# Altium footprint library AMP Footprints.PcbLib: 903 footprints (part 51 of 58)
Each footprint in its own frame and in the unit in brackets; x right, y up, seen from the top. Pads: shape width x height; smd on the part's side, far side on the other; paste and mask are expansions set on the pad; w line width, h text height; cw(c..) or ccw(c..) is an arc to the next point about the centre after c.
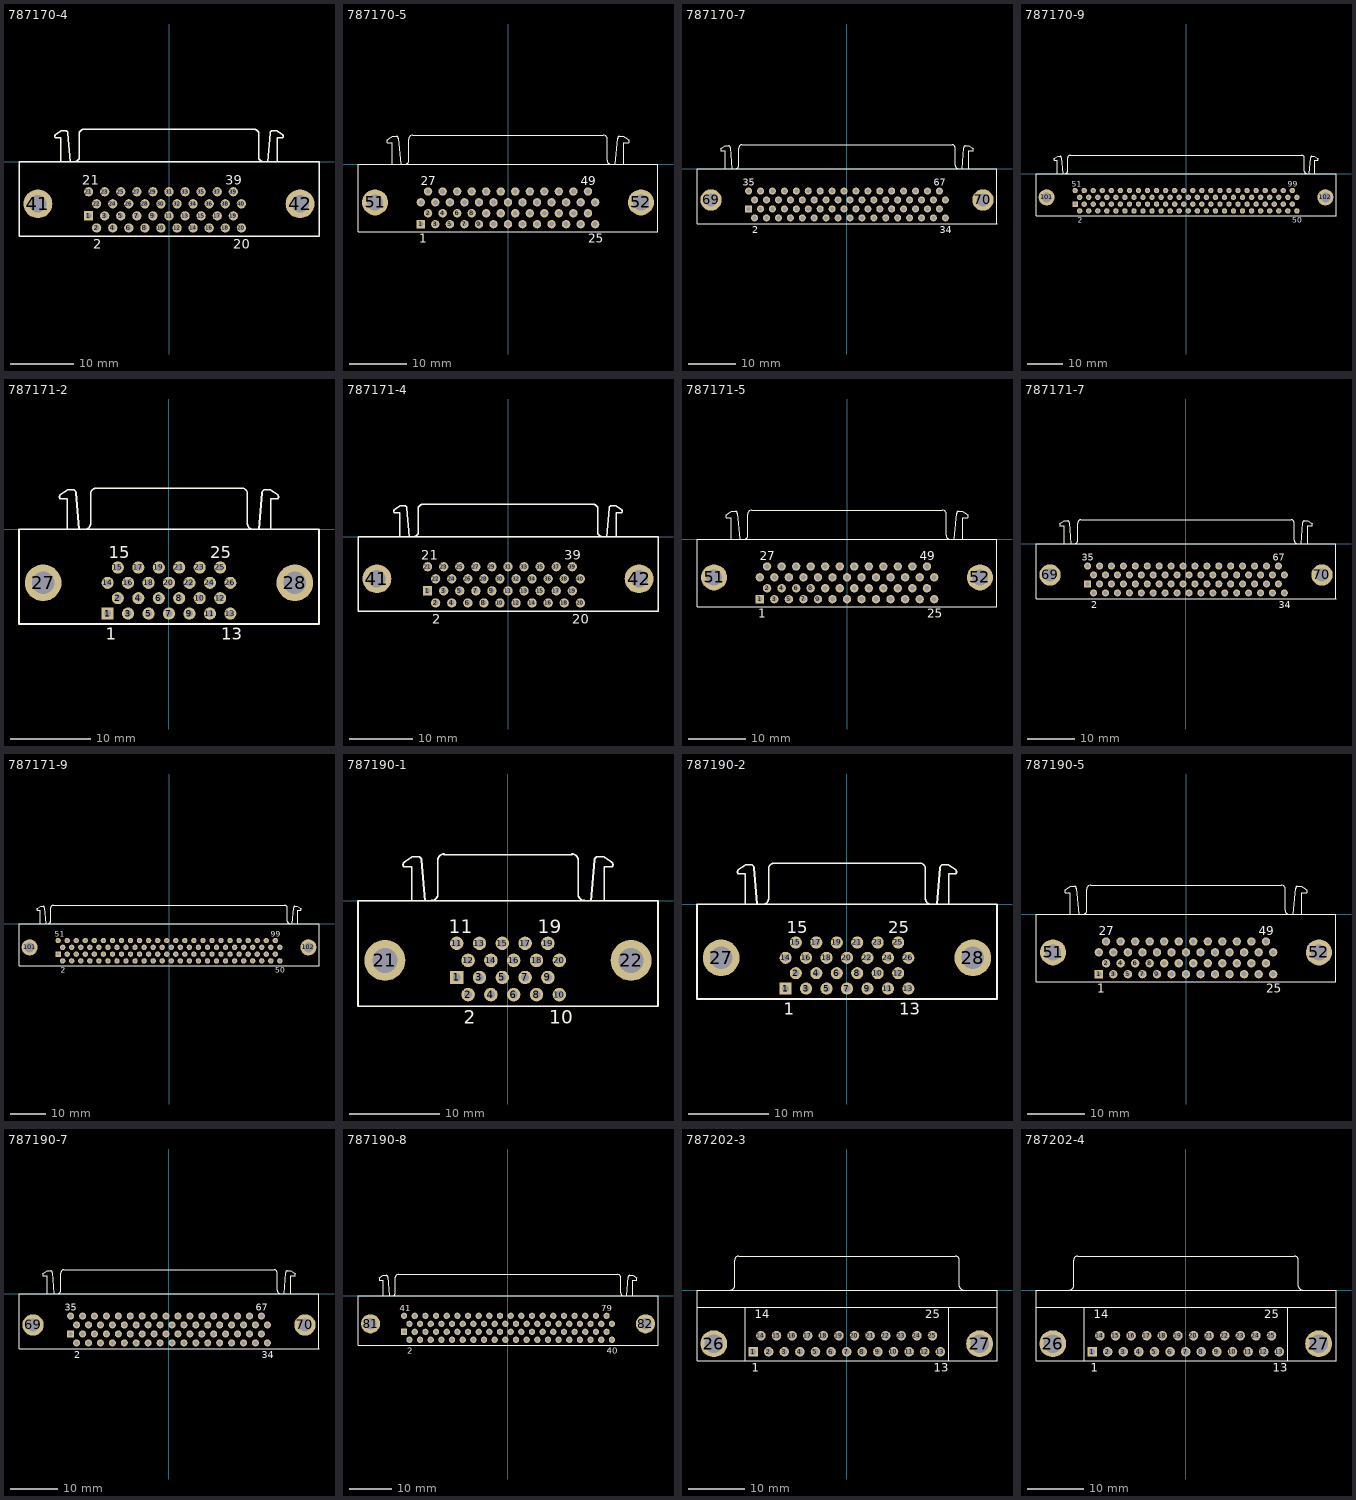
[diagram p50: the footprints below, top view; thin cyan lines are the x and y axes]

## 787170-4 [mm] "Connector; D Subminiature 050 Series; 40 Position; Right Angle"
height 10.44
pads (42):
  rect 1.46x1.46 hole 0.86: 1(-12.7,-8.555)
  round 1.46 hole 0.86: 2(-11.43,-10.46) 3(-10.16,-8.555) 4(-8.89,-10.46) 5(-7.62,-8.555) 6(-6.35,-10.46) 7(-5.08,-8.555) 8(-3.81,-10.46) 9(-2.54,-8.555) 10(-1.27,-10.46) 11(0,-8.555) 12(1.27,-10.46) 13(2.54,-8.555) 14(3.81,-10.46) 15(5.08,-8.555) 16(6.35,-10.46) 17(7.62,-8.555) 18(8.89,-10.46) 19(10.16,-8.555) 20(11.43,-10.46) 21(-12.7,-4.745) 22(-11.43,-6.65) 23(-10.16,-4.745) 24(-8.89,-6.65) 25(-7.62,-4.745) 26(-6.35,-6.65) 27(-5.08,-4.745) 28(-3.81,-6.65) 29(-2.54,-4.745) 30(-1.27,-6.65) 31(0,-4.745) 32(1.27,-6.65) 33(2.54,-4.745) 34(3.81,-6.65) 35(5.08,-4.745) 36(6.35,-6.65) 37(7.62,-4.745) 38(8.89,-6.65) 39(10.16,-4.745) 40(11.43,-6.65)
  round 4.55 hole 2.77: 41(-20.7,-6.65) 42(20.7,-6.65)
Top Overlay:
  lines w0.2: -23.695,0 23.695,0 23.695,-11.76 -23.695,-11.76 -23.695,0.02 ; -17.95,4.27 -17.01,4.898 -16.288,4.898 cw(c-16.39,4.5) -15.98,4.5 ; -17.936,4.255 ccw(c-17.71,4.01) -17.96,3.79 -17.08,3.79 -17.08,0 ; -15.98,4.52 -15.61,0 ; -14.87,0.005 ccw(c-14.87,0.7) -14.175,0.7 -14.175,4.41 cw(c-13.48,4.41) -13.48,5.105 ; -13.48,5.11 13.48,5.11 ; 13.48,5.105 cw(c13.48,4.41) 14.175,4.41 14.175,0.7 ccw(c14.87,0.7) 14.87,0.005 ; 15.61,0 15.98,4.52 ; 15.98,4.5 cw(c16.39,4.5) 16.288,4.898 17.01,4.898 17.95,4.27 ; 17.08,0 17.08,3.79 17.96,3.79 ccw(c17.71,4.01) 17.936,4.255
  text "20" at 10.18,-13.735 h1.5
  text "39" at 8.91,-3.64 h1.5
  text "2" at -11.93,-13.735 h1.5
  text "21" at -13.7,-3.64 h1.5

## 787170-5 [mm] "Connector; D Subminiature 050 Series; 50 Position; Right Angle"
height 10.44
pads (52):
  rect 1.46x1.46 hole 0.86: 1(-15.24,-10.46)
  round 1.46 hole 0.86: 2(-13.97,-8.555) 3(-12.7,-10.46) 4(-11.43,-8.555) 5(-10.16,-10.46) 6(-8.89,-8.555) 7(-7.62,-10.46) 8(-6.35,-8.555) 9(-5.08,-10.46) 10(-3.81,-8.555) 11(-2.54,-10.46) 12(-1.27,-8.555) 13(0,-10.46) 14(1.27,-8.555) 15(2.54,-10.46) 16(3.81,-8.555) 17(5.08,-10.46) 18(6.35,-8.555) 19(7.62,-10.46) 20(8.89,-8.555) 21(10.16,-10.46) 22(11.43,-8.555) 23(12.7,-10.46) 24(13.97,-8.555) 25(15.24,-10.46) 26(-15.24,-6.65) 27(-13.97,-4.745) 28(-12.7,-6.65) 29(-11.43,-4.745) 30(-10.16,-6.65) 31(-8.89,-4.745) 32(-7.62,-6.65) 33(-6.35,-4.745) 34(-5.08,-6.65) 35(-3.81,-4.745) 36(-2.54,-6.65) 37(-1.27,-4.745) 38(0,-6.65) 39(1.27,-4.745) 40(2.54,-6.65) 41(3.81,-4.745) 42(5.08,-6.65) 43(6.35,-4.745) 44(7.62,-6.65) 45(8.89,-4.745) 46(10.16,-6.65) 47(11.43,-4.745) 48(12.7,-6.65) 49(13.97,-4.745) 50(15.24,-6.65)
  round 4.55 hole 2.77: 51(-23.24,-6.65) 52(23.24,-6.65)
Top Overlay:
  lines w0.2: -21.125,4.27 -20.185,4.898 -19.463,4.898 cw(c-19.565,4.5) -19.155,4.5 ; -21.111,4.255 ccw(c-20.885,4.01) -21.135,3.79 -20.255,3.79 -20.255,0 ; -19.155,4.52 -18.785,0 ; -18.045,0.015 ccw(c-18.045,0.71) -17.35,0.71 -17.35,4.41 ; -17.345,4.415 cw(c-16.65,4.415) -16.65,5.11 16.65,5.11 cw(c16.65,4.415) 17.345,4.415 ; 17.35,4.41 17.35,0.71 ccw(c18.045,0.71) 18.045,0.015 ; 18.785,0 19.155,4.52 ; 19.155,4.5 cw(c19.565,4.5) 19.463,4.898 20.185,4.898 21.125,4.27 ; 20.255,0 20.255,3.79 21.135,3.79 ccw(c20.885,4.01) 21.111,4.255 ; -26.225,-11.76 -26.225,0 26.225,0 26.225,-11.76 -26.225,-11.76
  text "1" at -15.49,-13.735 h1.5
  text "25" at 13.99,-13.735 h1.5
  text "27" at -15.22,-3.64 h1.5
  text "49" at 12.72,-3.64 h1.5

## 787170-7 [mm] "Connector; D Subminiature 050 Series; 68 Position; Right Angle"
height 10.44
pads (70):
  rect 1.5x1.5 hole 0.86: 1(-20.955,-8.555)
  round 1.5 hole 0.86: 2(-19.685,-10.46) 3(-18.415,-8.555) 4(-17.145,-10.46) 5(-15.875,-8.555) 6(-14.605,-10.46) 7(-13.335,-8.555) 8(-12.065,-10.46) 9(-10.795,-8.555) 10(-9.525,-10.46) 11(-8.255,-8.555) 12(-6.985,-10.46) 13(-5.715,-8.555) 14(-4.445,-10.46) 15(-3.175,-8.555) 16(-1.905,-10.46) 17(-0.635,-8.555) 18(0.635,-10.46) 19(1.905,-8.555) 20(3.175,-10.46) 21(4.445,-8.555) 22(5.715,-10.46) 23(6.985,-8.555) 24(8.255,-10.46) 25(9.525,-8.555) 26(10.795,-10.46) 27(12.065,-8.555) 28(13.335,-10.46) 29(14.605,-8.555) 30(15.875,-10.46) 31(17.145,-8.555) 32(18.415,-10.46) 33(19.685,-8.555) 34(20.955,-10.46) 35(-20.955,-4.745) 36(-19.685,-6.65) 37(-18.415,-4.745) 38(-17.145,-6.65) 39(-15.875,-4.745) 40(-14.605,-6.65) 41(-13.335,-4.745) 42(-12.065,-6.65) 43(-10.795,-4.745) 44(-9.525,-6.65) 45(-8.255,-4.745) 46(-6.985,-6.65) 47(-5.715,-4.745) 48(-4.445,-6.65) 49(-3.175,-4.745) 50(-1.905,-6.65) 51(-0.635,-4.745) 52(0.635,-6.65) 53(1.905,-4.745) 54(3.175,-6.65) 55(4.445,-4.745) 56(5.715,-6.65) 57(6.985,-4.745) 58(8.255,-6.65) 59(9.525,-4.745) 60(10.795,-6.65) 61(12.065,-4.745) 62(13.335,-6.65) 63(14.605,-4.745) 64(15.875,-6.65) 65(17.145,-4.745) 66(18.415,-6.65) 67(19.685,-4.745) 68(20.955,-6.65)
  round 4.55 hole 2.77: 69(-28.955,-6.65) 70(28.955,-6.65)
Top Overlay:
  lines w0.2: -26.84,4.27 -25.9,4.898 -25.178,4.898 cw(c-25.28,4.5) -24.87,4.5 ; -26.826,4.255 ccw(c-26.6,4.01) -26.85,3.79 -25.97,3.79 -25.97,0 ; -24.87,4.52 -24.5,0 ; -23.76,0.005 ccw(c-23.76,0.7) -23.065,0.7 -23.065,4.4 cw(c-22.37,4.4) -22.37,5.095 ; -22.37,5.11 22.37,5.11 ; 22.37,5.095 cw(c22.37,4.4) 23.065,4.4 23.065,0.7 ccw(c23.76,0.7) 23.76,0.005 ; 24.5,0 24.87,4.52 ; 24.87,4.5 cw(c25.28,4.5) 25.178,4.898 25.9,4.898 26.84,4.27 ; 25.97,0 25.97,3.79 26.85,3.79 ccw(c26.6,4.01) 26.826,4.255 ; -31.95,-11.76 31.95,-11.76 31.95,0 -31.95,0 -31.95,-11.76
  text "2" at -20.185,-13.735 h1.5
  text "34" at 19.705,-13.735 h1.5
  text "67" at 18.435,-3.62 h1.5
  text "35" at -22.205,-3.62 h1.5

## 787170-9 [mm] "Connector; D Subminiature 050 Series; 100 Position; Right Angle"
height 10.44
pads (102):
  rect 1.5x1.5 hole 0.86: 1(-31.115,-8.555)
  round 1.5 hole 0.86: 2(-29.845,-10.46) 3(-28.575,-8.555) 4(-27.305,-10.46) 5(-26.035,-8.555) 6(-24.765,-10.46) 7(-23.495,-8.555) 8(-22.225,-10.46) 9(-20.955,-8.555) 10(-19.685,-10.46) 11(-18.415,-8.555) 12(-17.145,-10.46) 13(-15.875,-8.555) 14(-14.605,-10.46) 15(-13.335,-8.555) 16(-12.065,-10.46) 17(-10.795,-8.555) 18(-9.525,-10.46) 19(-8.255,-8.555) 20(-6.985,-10.46) 21(-5.715,-8.555) 22(-4.445,-10.46) 23(-3.175,-8.555) 24(-1.905,-10.46) 25(-0.635,-8.555) 26(0.635,-10.46) 27(1.905,-8.555) 28(3.175,-10.46) 29(4.445,-8.555) 30(5.715,-10.46) 31(6.985,-8.555) 32(8.255,-10.46) 33(9.525,-8.555) 34(10.795,-10.46) 35(12.065,-8.555) 36(13.335,-10.46) 37(14.605,-8.555) 38(15.875,-10.46) 39(17.145,-8.555) 40(18.415,-10.46) 41(19.685,-8.555) 42(20.955,-10.46) 43(22.225,-8.555) 44(23.495,-10.46) 45(24.765,-8.555) 46(26.035,-10.46) 47(27.305,-8.555) 48(28.575,-10.46) 49(29.845,-8.555) 50(31.115,-10.46) 51(-31.115,-4.745) 52(-29.845,-6.65) 53(-28.575,-4.745) 54(-27.305,-6.65) 55(-26.035,-4.745) 56(-24.765,-6.65) 57(-23.495,-4.745) 58(-22.225,-6.65) 59(-20.955,-4.745) 60(-19.685,-6.65) 61(-18.415,-4.745) 62(-17.145,-6.65) 63(-15.875,-4.745) 64(-14.605,-6.65) 65(-13.335,-4.745) 66(-12.065,-6.65) 67(-10.795,-4.745) 68(-9.525,-6.65) 69(-8.255,-4.745) 70(-6.985,-6.65) 71(-5.715,-4.745) 72(-4.445,-6.65) 73(-3.175,-4.745) 74(-1.905,-6.65) 75(-0.635,-4.745) 76(0.635,-6.65) 77(1.905,-4.745) 78(3.175,-6.65) 79(4.445,-4.745) 80(5.715,-6.65) 81(6.985,-4.745) 82(8.255,-6.65) 83(9.525,-4.745) 84(10.795,-6.65) 85(12.065,-4.745) 86(13.335,-6.65) 87(14.605,-4.745) 88(15.875,-6.65) 89(17.145,-4.745) 90(18.415,-6.65) 91(19.685,-4.745) 92(20.955,-6.65) 93(22.225,-4.745) 94(23.495,-6.65) 95(24.765,-4.745) 96(26.035,-6.65) 97(27.305,-4.745) 98(28.575,-6.65) 99(29.845,-4.745) 100(31.115,-6.65)
  round 4.55 hole 2.77: 101(-39.115,-6.65) 102(39.115,-6.65)
Top Overlay:
  lines w0.2: -37,4.27 -36.06,4.898 -35.338,4.898 cw(c-35.44,4.5) -35.03,4.5 ; -36.986,4.255 ccw(c-36.76,4.01) -37.01,3.79 -36.13,3.79 -36.13,0 ; -35.03,4.52 -34.66,0 ; -33.92,0.005 ccw(c-33.92,0.7) -33.225,0.7 -33.225,4.415 cw(c-32.53,4.415) -32.53,5.11 32.53,5.11 cw(c32.53,4.415) 33.225,4.415 33.225,0.7 ccw(c33.92,0.7) 33.92,0.005 ; 34.66,0 35.03,4.52 ; 35.03,4.5 cw(c35.44,4.5) 35.338,4.898 36.06,4.898 37,4.27 ; 36.13,0 36.13,3.79 37.01,3.79 ccw(c36.76,4.01) 36.986,4.255 ; -42.1,-11.76 -42.1,0 42.1,0 42.1,-11.76 -42.1,-11.76
  text "2" at -30.345,-13.735 h1.5
  text "50" at 29.865,-13.735 h1.5
  text "51" at -32.115,-3.62 h1.5
  text "99" at 28.595,-3.62 h1.5

## 787171-2 [mm] "Connector; D Subminiature 050 Series; 26 Position; Right Angle"
height 10.44
pads (28):
  rect 1.5x1.5 hole 0.86: 1(-7.62,-10.46)
  round 1.5 hole 0.86: 2(-6.35,-8.555) 3(-5.08,-10.46) 4(-3.81,-8.555) 5(-2.54,-10.46) 6(-1.27,-8.555) 7(0,-10.46) 8(1.27,-8.555) 9(2.54,-10.46) 10(3.81,-8.555) 11(5.08,-10.46) 12(6.35,-8.555) 13(7.62,-10.46) 14(-7.62,-6.65) 15(-6.35,-4.745) 16(-5.08,-6.65) 17(-3.81,-4.745) 18(-2.54,-6.65) 19(-1.27,-4.745) 20(0,-6.65) 21(1.27,-4.745) 22(2.54,-6.65) 23(3.81,-4.745) 24(5.08,-6.65) 25(6.35,-4.745) 26(7.62,-6.65)
  round 4.55 hole 2.77: 27(-15.62,-6.65) 28(15.62,-6.65)
Top Overlay:
  lines w0.2: -13.505,4.27 -12.565,4.898 -11.843,4.898 cw(c-11.945,4.5) -11.535,4.5 ; -13.491,4.255 ccw(c-13.265,4.01) -13.515,3.79 -12.635,3.79 -12.635,0 ; -11.535,4.52 -11.165,0 ; -10.425,0.005 ccw(c-10.425,0.7) -9.73,0.7 -9.73,4.4 cw(c-9.035,4.4) -9.035,5.095 ; -9.035,5.11 9.035,5.11 ; 9.035,5.105 cw(c9.035,4.41) 9.73,4.41 9.73,0.7 ccw(c10.425,0.7) 10.425,0.005 ; 11.165,0 11.535,4.52 ; 11.535,4.5 cw(c11.945,4.5) 11.843,4.898 12.565,4.898 13.505,4.27 ; 12.635,0 12.635,3.79 13.515,3.79 ccw(c13.265,4.01) 13.491,4.255 ; -18.615,-11.76 -18.615,0 18.615,0 18.615,-11.76 -18.615,-11.76
  text "25" at 5.1,-3.62 h1.5
  text "15" at -7.475,-3.62 h1.5
  text "13" at 6.495,-13.735 h1.5
  text "1" at -7.87,-13.735 h1.5

## 787171-4 [mm] "Connector; D Subminiature 050 Series; 40 Position; Right Angle"
height 10.44
pads (42):
  rect 1.46x1.46 hole 0.86: 1(-12.7,-8.555)
  round 1.46 hole 0.86: 2(-11.43,-10.46) 3(-10.16,-8.555) 4(-8.89,-10.46) 5(-7.62,-8.555) 6(-6.35,-10.46) 7(-5.08,-8.555) 8(-3.81,-10.46) 9(-2.54,-8.555) 10(-1.27,-10.46) 11(0,-8.555) 12(1.27,-10.46) 13(2.54,-8.555) 14(3.81,-10.46) 15(5.08,-8.555) 16(6.35,-10.46) 17(7.62,-8.555) 18(8.89,-10.46) 19(10.16,-8.555) 20(11.43,-10.46) 21(-12.7,-4.745) 22(-11.43,-6.65) 23(-10.16,-4.745) 24(-8.89,-6.65) 25(-7.62,-4.745) 26(-6.35,-6.65) 27(-5.08,-4.745) 28(-3.81,-6.65) 29(-2.54,-4.745) 30(-1.27,-6.65) 31(0,-4.745) 32(1.27,-6.65) 33(2.54,-4.745) 34(3.81,-6.65) 35(5.08,-4.745) 36(6.35,-6.65) 37(7.62,-4.745) 38(8.89,-6.65) 39(10.16,-4.745) 40(11.43,-6.65)
  round 4.55 hole 2.77: 41(-20.7,-6.65) 42(20.7,-6.65)
Top Overlay:
  lines w0.2: -23.695,0 23.695,0 23.695,-11.76 -23.695,-11.76 -23.695,0.02 ; -17.95,4.27 -17.01,4.898 -16.288,4.898 cw(c-16.39,4.5) -15.98,4.5 ; -17.936,4.255 ccw(c-17.71,4.01) -17.96,3.79 -17.08,3.79 -17.08,0 ; -15.98,4.52 -15.61,0 ; -14.87,0.005 ccw(c-14.87,0.7) -14.175,0.7 -14.175,4.41 cw(c-13.48,4.41) -13.48,5.105 ; -13.48,5.11 13.48,5.11 ; 13.48,5.105 cw(c13.48,4.41) 14.175,4.41 14.175,0.7 ccw(c14.87,0.7) 14.87,0.005 ; 15.61,0 15.98,4.52 ; 15.98,4.5 cw(c16.39,4.5) 16.288,4.898 17.01,4.898 17.95,4.27 ; 17.08,0 17.08,3.79 17.96,3.79 ccw(c17.71,4.01) 17.936,4.255
  text "20" at 10.18,-13.735 h1.5
  text "39" at 8.91,-3.64 h1.5
  text "2" at -11.93,-13.735 h1.5
  text "21" at -13.7,-3.64 h1.5

## 787171-5 [mm] "Connector; D Subminiature 050 Series; 50 Position; Right Angle"
height 10.44
pads (52):
  rect 1.46x1.46 hole 0.86: 1(-15.24,-10.46)
  round 1.46 hole 0.86: 2(-13.97,-8.555) 3(-12.7,-10.46) 4(-11.43,-8.555) 5(-10.16,-10.46) 6(-8.89,-8.555) 7(-7.62,-10.46) 8(-6.35,-8.555) 9(-5.08,-10.46) 10(-3.81,-8.555) 11(-2.54,-10.46) 12(-1.27,-8.555) 13(0,-10.46) 14(1.27,-8.555) 15(2.54,-10.46) 16(3.81,-8.555) 17(5.08,-10.46) 18(6.35,-8.555) 19(7.62,-10.46) 20(8.89,-8.555) 21(10.16,-10.46) 22(11.43,-8.555) 23(12.7,-10.46) 24(13.97,-8.555) 25(15.24,-10.46) 26(-15.24,-6.65) 27(-13.97,-4.745) 28(-12.7,-6.65) 29(-11.43,-4.745) 30(-10.16,-6.65) 31(-8.89,-4.745) 32(-7.62,-6.65) 33(-6.35,-4.745) 34(-5.08,-6.65) 35(-3.81,-4.745) 36(-2.54,-6.65) 37(-1.27,-4.745) 38(0,-6.65) 39(1.27,-4.745) 40(2.54,-6.65) 41(3.81,-4.745) 42(5.08,-6.65) 43(6.35,-4.745) 44(7.62,-6.65) 45(8.89,-4.745) 46(10.16,-6.65) 47(11.43,-4.745) 48(12.7,-6.65) 49(13.97,-4.745) 50(15.24,-6.65)
  round 4.55 hole 2.77: 51(-23.24,-6.65) 52(23.24,-6.65)
Top Overlay:
  lines w0.2: -21.125,4.27 -20.185,4.898 -19.463,4.898 cw(c-19.565,4.5) -19.155,4.5 ; -21.111,4.255 ccw(c-20.885,4.01) -21.135,3.79 -20.255,3.79 -20.255,0 ; -19.155,4.52 -18.785,0 ; -18.045,0.015 ccw(c-18.045,0.71) -17.35,0.71 -17.35,4.41 ; -17.345,4.415 cw(c-16.65,4.415) -16.65,5.11 16.65,5.11 cw(c16.65,4.415) 17.345,4.415 ; 17.35,4.41 17.35,0.71 ccw(c18.045,0.71) 18.045,0.015 ; 18.785,0 19.155,4.52 ; 19.155,4.5 cw(c19.565,4.5) 19.463,4.898 20.185,4.898 21.125,4.27 ; 20.255,0 20.255,3.79 21.135,3.79 ccw(c20.885,4.01) 21.111,4.255 ; -26.225,-11.76 -26.225,0 26.225,0 26.225,-11.76 -26.225,-11.76
  text "1" at -15.49,-13.735 h1.5
  text "25" at 13.99,-13.735 h1.5
  text "27" at -15.22,-3.64 h1.5
  text "49" at 12.72,-3.64 h1.5

## 787171-7 [mm] "Connector; D Subminiature 050 Series; 68 Position; Right Angle"
height 10.44
pads (70):
  rect 1.5x1.5 hole 0.86: 1(-20.955,-8.555)
  round 1.5 hole 0.86: 2(-19.685,-10.46) 3(-18.415,-8.555) 4(-17.145,-10.46) 5(-15.875,-8.555) 6(-14.605,-10.46) 7(-13.335,-8.555) 8(-12.065,-10.46) 9(-10.795,-8.555) 10(-9.525,-10.46) 11(-8.255,-8.555) 12(-6.985,-10.46) 13(-5.715,-8.555) 14(-4.445,-10.46) 15(-3.175,-8.555) 16(-1.905,-10.46) 17(-0.635,-8.555) 18(0.635,-10.46) 19(1.905,-8.555) 20(3.175,-10.46) 21(4.445,-8.555) 22(5.715,-10.46) 23(6.985,-8.555) 24(8.255,-10.46) 25(9.525,-8.555) 26(10.795,-10.46) 27(12.065,-8.555) 28(13.335,-10.46) 29(14.605,-8.555) 30(15.875,-10.46) 31(17.145,-8.555) 32(18.415,-10.46) 33(19.685,-8.555) 34(20.955,-10.46) 35(-20.955,-4.745) 36(-19.685,-6.65) 37(-18.415,-4.745) 38(-17.145,-6.65) 39(-15.875,-4.745) 40(-14.605,-6.65) 41(-13.335,-4.745) 42(-12.065,-6.65) 43(-10.795,-4.745) 44(-9.525,-6.65) 45(-8.255,-4.745) 46(-6.985,-6.65) 47(-5.715,-4.745) 48(-4.445,-6.65) 49(-3.175,-4.745) 50(-1.905,-6.65) 51(-0.635,-4.745) 52(0.635,-6.65) 53(1.905,-4.745) 54(3.175,-6.65) 55(4.445,-4.745) 56(5.715,-6.65) 57(6.985,-4.745) 58(8.255,-6.65) 59(9.525,-4.745) 60(10.795,-6.65) 61(12.065,-4.745) 62(13.335,-6.65) 63(14.605,-4.745) 64(15.875,-6.65) 65(17.145,-4.745) 66(18.415,-6.65) 67(19.685,-4.745) 68(20.955,-6.65)
  round 4.55 hole 2.77: 69(-28.955,-6.65) 70(28.955,-6.65)
Top Overlay:
  lines w0.2: -26.84,4.27 -25.9,4.898 -25.178,4.898 cw(c-25.28,4.5) -24.87,4.5 ; -26.826,4.255 ccw(c-26.6,4.01) -26.85,3.79 -25.97,3.79 -25.97,0 ; -24.87,4.52 -24.5,0 ; -23.76,0.005 ccw(c-23.76,0.7) -23.065,0.7 -23.065,4.4 cw(c-22.37,4.4) -22.37,5.095 ; -22.37,5.11 22.37,5.11 ; 22.37,5.095 cw(c22.37,4.4) 23.065,4.4 23.065,0.7 ccw(c23.76,0.7) 23.76,0.005 ; 24.5,0 24.87,4.52 ; 24.87,4.5 cw(c25.28,4.5) 25.178,4.898 25.9,4.898 26.84,4.27 ; 25.97,0 25.97,3.79 26.85,3.79 ccw(c26.6,4.01) 26.826,4.255 ; -31.95,-11.76 31.95,-11.76 31.95,0 -31.95,0 -31.95,-11.76
  text "2" at -20.185,-13.735 h1.5
  text "34" at 19.705,-13.735 h1.5
  text "67" at 18.435,-3.62 h1.5
  text "35" at -22.205,-3.62 h1.5

## 787171-9 [mm] "Connector; D Subminiature 050 Series; 100 Position; Right Angle"
height 10.44
pads (102):
  rect 1.5x1.5 hole 0.86: 1(-31.115,-8.555)
  round 1.5 hole 0.86: 2(-29.845,-10.46) 3(-28.575,-8.555) 4(-27.305,-10.46) 5(-26.035,-8.555) 6(-24.765,-10.46) 7(-23.495,-8.555) 8(-22.225,-10.46) 9(-20.955,-8.555) 10(-19.685,-10.46) 11(-18.415,-8.555) 12(-17.145,-10.46) 13(-15.875,-8.555) 14(-14.605,-10.46) 15(-13.335,-8.555) 16(-12.065,-10.46) 17(-10.795,-8.555) 18(-9.525,-10.46) 19(-8.255,-8.555) 20(-6.985,-10.46) 21(-5.715,-8.555) 22(-4.445,-10.46) 23(-3.175,-8.555) 24(-1.905,-10.46) 25(-0.635,-8.555) 26(0.635,-10.46) 27(1.905,-8.555) 28(3.175,-10.46) 29(4.445,-8.555) 30(5.715,-10.46) 31(6.985,-8.555) 32(8.255,-10.46) 33(9.525,-8.555) 34(10.795,-10.46) 35(12.065,-8.555) 36(13.335,-10.46) 37(14.605,-8.555) 38(15.875,-10.46) 39(17.145,-8.555) 40(18.415,-10.46) 41(19.685,-8.555) 42(20.955,-10.46) 43(22.225,-8.555) 44(23.495,-10.46) 45(24.765,-8.555) 46(26.035,-10.46) 47(27.305,-8.555) 48(28.575,-10.46) 49(29.845,-8.555) 50(31.115,-10.46) 51(-31.115,-4.745) 52(-29.845,-6.65) 53(-28.575,-4.745) 54(-27.305,-6.65) 55(-26.035,-4.745) 56(-24.765,-6.65) 57(-23.495,-4.745) 58(-22.225,-6.65) 59(-20.955,-4.745) 60(-19.685,-6.65) 61(-18.415,-4.745) 62(-17.145,-6.65) 63(-15.875,-4.745) 64(-14.605,-6.65) 65(-13.335,-4.745) 66(-12.065,-6.65) 67(-10.795,-4.745) 68(-9.525,-6.65) 69(-8.255,-4.745) 70(-6.985,-6.65) 71(-5.715,-4.745) 72(-4.445,-6.65) 73(-3.175,-4.745) 74(-1.905,-6.65) 75(-0.635,-4.745) 76(0.635,-6.65) 77(1.905,-4.745) 78(3.175,-6.65) 79(4.445,-4.745) 80(5.715,-6.65) 81(6.985,-4.745) 82(8.255,-6.65) 83(9.525,-4.745) 84(10.795,-6.65) 85(12.065,-4.745) 86(13.335,-6.65) 87(14.605,-4.745) 88(15.875,-6.65) 89(17.145,-4.745) 90(18.415,-6.65) 91(19.685,-4.745) 92(20.955,-6.65) 93(22.225,-4.745) 94(23.495,-6.65) 95(24.765,-4.745) 96(26.035,-6.65) 97(27.305,-4.745) 98(28.575,-6.65) 99(29.845,-4.745) 100(31.115,-6.65)
  round 4.55 hole 2.77: 101(-39.115,-6.65) 102(39.115,-6.65)
Top Overlay:
  lines w0.2: -37,4.27 -36.06,4.898 -35.338,4.898 cw(c-35.44,4.5) -35.03,4.5 ; -36.986,4.255 ccw(c-36.76,4.01) -37.01,3.79 -36.13,3.79 -36.13,0 ; -35.03,4.52 -34.66,0 ; -33.92,0.005 ccw(c-33.92,0.7) -33.225,0.7 -33.225,4.415 cw(c-32.53,4.415) -32.53,5.11 32.53,5.11 cw(c32.53,4.415) 33.225,4.415 33.225,0.7 ccw(c33.92,0.7) 33.92,0.005 ; 34.66,0 35.03,4.52 ; 35.03,4.5 cw(c35.44,4.5) 35.338,4.898 36.06,4.898 37,4.27 ; 36.13,0 36.13,3.79 37.01,3.79 ccw(c36.76,4.01) 36.986,4.255 ; -42.1,-11.76 -42.1,0 42.1,0 42.1,-11.76 -42.1,-11.76
  text "2" at -30.345,-13.735 h1.5
  text "50" at 29.865,-13.735 h1.5
  text "51" at -32.115,-3.62 h1.5
  text "99" at 28.595,-3.62 h1.5

## 787190-1 [mm] "Connector; D Subminiature 050 Series; 20 Position; Right Angle"
height 10.44
pads (22):
  rect 1.5x1.5 hole 0.86: 1(-5.715,-8.555)
  round 1.5 hole 0.86: 2(-4.445,-10.46) 3(-3.175,-8.555) 4(-1.905,-10.46) 5(-0.635,-8.555) 6(0.635,-10.46) 7(1.905,-8.555) 8(3.175,-10.46) 9(4.445,-8.555) 10(5.715,-10.46) 11(-5.715,-4.745) 12(-4.445,-6.65) 13(-3.175,-4.745) 14(-1.905,-6.65) 15(-0.635,-4.745) 16(0.635,-6.65) 17(1.905,-4.745) 18(3.175,-6.65) 19(4.445,-4.745) 20(5.715,-6.65)
  round 4.55 hole 2.77: 21(-13.715,-6.65) 22(13.715,-6.65)
Top Overlay:
  lines w0.2: -11.6,4.27 -10.66,4.898 -9.938,4.898 cw(c-10.04,4.5) -9.63,4.5 ; -11.586,4.255 ccw(c-11.36,4.01) -11.61,3.79 -10.73,3.79 -10.73,0 ; -9.63,4.52 -9.26,0 ; -8.52,0.005 ccw(c-8.52,0.7) -7.825,0.7 -7.825,4.5 ; -7.82,4.505 cw(c-7.125,4.505) -7.125,5.2 ; -7.125,5.11 7.125,5.11 ; 7.125,5.2 cw(c7.125,4.505) 7.82,4.505 ; 7.825,4.5 7.825,0.7 ccw(c8.52,0.7) 8.52,0.005 ; 9.26,0 9.63,4.52 ; 9.63,4.5 cw(c10.04,4.5) 9.938,4.898 10.66,4.898 11.6,4.27 ; 10.73,0 10.73,3.79 11.61,3.79 ccw(c11.36,4.01) 11.586,4.255 ; -16.71,-11.76 -16.71,0 16.71,0 16.71,-11.76 -16.71,-11.76
  text "2" at -4.945,-13.735 h1.5
  text "11" at -6.59,-3.62 h1.5
  text "19" at 3.32,-3.62 h1.5
  text "10" at 4.59,-13.735 h1.5

## 787190-2 [mm] "Connector; D Subminiature 050 Series; 26 Position; Right Angle"
height 10.44
pads (28):
  rect 1.5x1.5 hole 0.86: 1(-7.62,-10.46)
  round 1.5 hole 0.86: 2(-6.35,-8.555) 3(-5.08,-10.46) 4(-3.81,-8.555) 5(-2.54,-10.46) 6(-1.27,-8.555) 7(0,-10.46) 8(1.27,-8.555) 9(2.54,-10.46) 10(3.81,-8.555) 11(5.08,-10.46) 12(6.35,-8.555) 13(7.62,-10.46) 14(-7.62,-6.65) 15(-6.35,-4.745) 16(-5.08,-6.65) 17(-3.81,-4.745) 18(-2.54,-6.65) 19(-1.27,-4.745) 20(0,-6.65) 21(1.27,-4.745) 22(2.54,-6.65) 23(3.81,-4.745) 24(5.08,-6.65) 25(6.35,-4.745) 26(7.62,-6.65)
  round 4.55 hole 2.77: 27(-15.62,-6.65) 28(15.62,-6.65)
Top Overlay:
  lines w0.2: -13.505,4.27 -12.565,4.898 -11.843,4.898 cw(c-11.945,4.5) -11.535,4.5 ; -13.491,4.255 ccw(c-13.265,4.01) -13.515,3.79 -12.635,3.79 -12.635,0 ; -11.535,4.52 -11.165,0 ; -10.425,0.005 ccw(c-10.425,0.7) -9.73,0.7 -9.73,4.4 cw(c-9.035,4.4) -9.035,5.095 ; -9.035,5.11 9.035,5.11 ; 9.035,5.105 cw(c9.035,4.41) 9.73,4.41 9.73,0.7 ccw(c10.425,0.7) 10.425,0.005 ; 11.165,0 11.535,4.52 ; 11.535,4.5 cw(c11.945,4.5) 11.843,4.898 12.565,4.898 13.505,4.27 ; 12.635,0 12.635,3.79 13.515,3.79 ccw(c13.265,4.01) 13.491,4.255 ; -18.615,-11.76 -18.615,0 18.615,0 18.615,-11.76 -18.615,-11.76
  text "25" at 5.1,-3.62 h1.5
  text "15" at -7.475,-3.62 h1.5
  text "13" at 6.495,-13.735 h1.5
  text "1" at -7.87,-13.735 h1.5

## 787190-5 [mm] "Connector; D Subminiature 050 Series; 50 Position; Right Angle"
height 10.44
pads (52):
  rect 1.46x1.46 hole 0.86: 1(-15.24,-10.46)
  round 1.46 hole 0.86: 2(-13.97,-8.555) 3(-12.7,-10.46) 4(-11.43,-8.555) 5(-10.16,-10.46) 6(-8.89,-8.555) 7(-7.62,-10.46) 8(-6.35,-8.555) 9(-5.08,-10.46) 10(-3.81,-8.555) 11(-2.54,-10.46) 12(-1.27,-8.555) 13(0,-10.46) 14(1.27,-8.555) 15(2.54,-10.46) 16(3.81,-8.555) 17(5.08,-10.46) 18(6.35,-8.555) 19(7.62,-10.46) 20(8.89,-8.555) 21(10.16,-10.46) 22(11.43,-8.555) 23(12.7,-10.46) 24(13.97,-8.555) 25(15.24,-10.46) 26(-15.24,-6.65) 27(-13.97,-4.745) 28(-12.7,-6.65) 29(-11.43,-4.745) 30(-10.16,-6.65) 31(-8.89,-4.745) 32(-7.62,-6.65) 33(-6.35,-4.745) 34(-5.08,-6.65) 35(-3.81,-4.745) 36(-2.54,-6.65) 37(-1.27,-4.745) 38(0,-6.65) 39(1.27,-4.745) 40(2.54,-6.65) 41(3.81,-4.745) 42(5.08,-6.65) 43(6.35,-4.745) 44(7.62,-6.65) 45(8.89,-4.745) 46(10.16,-6.65) 47(11.43,-4.745) 48(12.7,-6.65) 49(13.97,-4.745) 50(15.24,-6.65)
  round 4.55 hole 2.77: 51(-23.24,-6.65) 52(23.24,-6.65)
Top Overlay:
  lines w0.2: -21.125,4.27 -20.185,4.898 -19.463,4.898 cw(c-19.565,4.5) -19.155,4.5 ; -21.111,4.255 ccw(c-20.885,4.01) -21.135,3.79 -20.255,3.79 -20.255,0 ; -19.155,4.52 -18.785,0 ; -18.045,0.015 ccw(c-18.045,0.71) -17.35,0.71 -17.35,4.41 ; -17.345,4.415 cw(c-16.65,4.415) -16.65,5.11 16.65,5.11 cw(c16.65,4.415) 17.345,4.415 ; 17.35,4.41 17.35,0.71 ccw(c18.045,0.71) 18.045,0.015 ; 18.785,0 19.155,4.52 ; 19.155,4.5 cw(c19.565,4.5) 19.463,4.898 20.185,4.898 21.125,4.27 ; 20.255,0 20.255,3.79 21.135,3.79 ccw(c20.885,4.01) 21.111,4.255 ; -26.225,-11.76 -26.225,0 26.225,0 26.225,-11.76 -26.225,-11.76
  text "1" at -15.49,-13.735 h1.5
  text "25" at 13.99,-13.735 h1.5
  text "27" at -15.22,-3.64 h1.5
  text "49" at 12.72,-3.64 h1.5

## 787190-7 [mm] "Connector; D Subminiature 050 Series; 68 Position; Right Angle"
height 10.44
pads (70):
  rect 1.5x1.5 hole 0.86: 1(-20.955,-8.555)
  round 1.5 hole 0.86: 2(-19.685,-10.46) 3(-18.415,-8.555) 4(-17.145,-10.46) 5(-15.875,-8.555) 6(-14.605,-10.46) 7(-13.335,-8.555) 8(-12.065,-10.46) 9(-10.795,-8.555) 10(-9.525,-10.46) 11(-8.255,-8.555) 12(-6.985,-10.46) 13(-5.715,-8.555) 14(-4.445,-10.46) 15(-3.175,-8.555) 16(-1.905,-10.46) 17(-0.635,-8.555) 18(0.635,-10.46) 19(1.905,-8.555) 20(3.175,-10.46) 21(4.445,-8.555) 22(5.715,-10.46) 23(6.985,-8.555) 24(8.255,-10.46) 25(9.525,-8.555) 26(10.795,-10.46) 27(12.065,-8.555) 28(13.335,-10.46) 29(14.605,-8.555) 30(15.875,-10.46) 31(17.145,-8.555) 32(18.415,-10.46) 33(19.685,-8.555) 34(20.955,-10.46) 35(-20.955,-4.745) 36(-19.685,-6.65) 37(-18.415,-4.745) 38(-17.145,-6.65) 39(-15.875,-4.745) 40(-14.605,-6.65) 41(-13.335,-4.745) 42(-12.065,-6.65) 43(-10.795,-4.745) 44(-9.525,-6.65) 45(-8.255,-4.745) 46(-6.985,-6.65) 47(-5.715,-4.745) 48(-4.445,-6.65) 49(-3.175,-4.745) 50(-1.905,-6.65) 51(-0.635,-4.745) 52(0.635,-6.65) 53(1.905,-4.745) 54(3.175,-6.65) 55(4.445,-4.745) 56(5.715,-6.65) 57(6.985,-4.745) 58(8.255,-6.65) 59(9.525,-4.745) 60(10.795,-6.65) 61(12.065,-4.745) 62(13.335,-6.65) 63(14.605,-4.745) 64(15.875,-6.65) 65(17.145,-4.745) 66(18.415,-6.65) 67(19.685,-4.745) 68(20.955,-6.65)
  round 4.55 hole 2.77: 69(-28.955,-6.65) 70(28.955,-6.65)
Top Overlay:
  lines w0.2: -26.84,4.27 -25.9,4.898 -25.178,4.898 cw(c-25.28,4.5) -24.87,4.5 ; -26.826,4.255 ccw(c-26.6,4.01) -26.85,3.79 -25.97,3.79 -25.97,0 ; -24.87,4.52 -24.5,0 ; -23.76,0.005 ccw(c-23.76,0.7) -23.065,0.7 -23.065,4.4 cw(c-22.37,4.4) -22.37,5.095 ; -22.37,5.11 22.37,5.11 ; 22.37,5.095 cw(c22.37,4.4) 23.065,4.4 23.065,0.7 ccw(c23.76,0.7) 23.76,0.005 ; 24.5,0 24.87,4.52 ; 24.87,4.5 cw(c25.28,4.5) 25.178,4.898 25.9,4.898 26.84,4.27 ; 25.97,0 25.97,3.79 26.85,3.79 ccw(c26.6,4.01) 26.826,4.255 ; -31.95,-11.76 31.95,-11.76 31.95,0 -31.95,0 -31.95,-11.76
  text "2" at -20.185,-13.735 h1.5
  text "34" at 19.705,-13.735 h1.5
  text "67" at 18.435,-3.62 h1.5
  text "35" at -22.205,-3.62 h1.5

## 787190-8 [mm] "Connector; D Subminiature 050 Series; 80 Position; Right Angle"
height 10.44
pads (82):
  rect 1.5x1.5 hole 0.86: 1(-24.765,-8.555)
  round 1.5 hole 0.86: 2(-23.495,-10.46) 3(-22.225,-8.555) 4(-20.955,-10.46) 5(-19.685,-8.555) 6(-18.415,-10.46) 7(-17.145,-8.555) 8(-15.875,-10.46) 9(-14.605,-8.555) 10(-13.335,-10.46) 11(-12.065,-8.555) 12(-10.795,-10.46) 13(-9.525,-8.555) 14(-8.255,-10.46) 15(-6.985,-8.555) 16(-5.715,-10.46) 17(-4.445,-8.555) 18(-3.175,-10.46) 19(-1.905,-8.555) 20(-0.635,-10.46) 21(0.635,-8.555) 22(1.905,-10.46) 23(3.175,-8.555) 24(4.445,-10.46) 25(5.715,-8.555) 26(6.985,-10.46) 27(8.255,-8.555) 28(9.525,-10.46) 29(10.795,-8.555) 30(12.065,-10.46) 31(13.335,-8.555) 32(14.605,-10.46) 33(15.875,-8.555) 34(17.145,-10.46) 35(18.415,-8.555) 36(19.685,-10.46) 37(20.955,-8.555) 38(22.225,-10.46) 39(23.495,-8.555) 40(24.765,-10.46) 41(-24.765,-4.745) 42(-23.495,-6.65) 43(-22.225,-4.745) 44(-20.955,-6.65) 45(-19.685,-4.745) 46(-18.415,-6.65) 47(-17.145,-4.745) 48(-15.875,-6.65) 49(-14.605,-4.745) 50(-13.335,-6.65) 51(-12.065,-4.745) 52(-10.795,-6.65) 53(-9.525,-4.745) 54(-8.255,-6.65) 55(-6.985,-4.745) 56(-5.715,-6.65) 57(-4.445,-4.745) 58(-3.175,-6.65) 59(-1.905,-4.745) 60(-0.635,-6.65) 61(0.635,-4.745) 62(1.905,-6.65) 63(3.175,-4.745) 64(4.445,-6.65) 65(5.715,-4.745) 66(6.985,-6.65) 67(8.255,-4.745) 68(9.525,-6.65) 69(10.795,-4.745) 70(12.065,-6.65) 71(13.335,-4.745) 72(14.605,-6.65) 73(15.875,-4.745) 74(17.145,-6.65) 75(18.415,-4.745) 76(19.685,-6.65) 77(20.955,-4.745) 78(22.225,-6.65) 79(23.495,-4.745) 80(24.765,-6.65)
  round 4.55 hole 2.77: 81(-32.765,-6.65) 82(32.765,-6.65)
Top Overlay:
  lines w0.2: -30.65,4.27 -29.71,4.898 -28.988,4.898 cw(c-29.09,4.5) -28.68,4.5 ; -30.636,4.255 ccw(c-30.41,4.01) -30.66,3.79 -29.78,3.79 -29.78,0 ; -28.68,4.52 -28.31,0 ; -27.57,0.005 ccw(c-27.57,0.7) -26.875,0.7 -26.875,4.41 cw(c-26.18,4.41) -26.18,5.105 ; -26.18,5.11 26.18,5.11 ; 26.18,5.105 cw(c26.18,4.41) 26.875,4.41 26.875,0.7 ccw(c27.57,0.7) 27.57,0.005 ; 28.31,0 28.68,4.52 ; 28.68,4.5 cw(c29.09,4.5) 28.988,4.898 29.71,4.898 30.65,4.27 ; 29.78,0 29.78,3.79 30.66,3.79 ccw(c30.41,4.01) 30.636,4.255 ; -35.75,-11.76 35.75,-11.76 35.75,0 -35.75,0 -35.75,-11.76
  text "2" at -23.995,-13.735 h1.5
  text "40" at 23.515,-13.735 h1.5
  text "79" at 22.245,-3.62 h1.5
  text "41" at -25.765,-3.62 h1.5

## 787202-3 [mm] "Connector; D Subminiature AMPLIMITE 2000; 25 Position; Right Angle"
height 12.93
pads (27):
  rect 1.69x1.69 hole 1.09: 1(-16.566,-10.92)
  round 1.69 hole 1.09: 2(-13.805,-10.92) 3(-11.044,-10.92) 4(-8.283,-10.92) 5(-5.522,-10.92) 6(-2.761,-10.92) 7(0,-10.92) 8(2.761,-10.92) 9(5.522,-10.92) 10(8.283,-10.92) 11(11.044,-10.92) 12(13.805,-10.92) 13(16.566,-10.92) 14(-15.185,-8.08) 15(-12.424,-8.08) 16(-9.663,-8.08) 17(-6.902,-8.08) 18(-4.141,-8.08) 19(-1.38,-8.08) 20(1.381,-8.08) 21(4.142,-8.08) 22(6.903,-8.08) 23(9.664,-8.08) 24(12.425,-8.08) 25(15.186,-8.08)
  round 4.76 hole 3.26: 26(-23.526,-9.5) 27(23.526,-9.5)
Top Overlay:
  lines w0.2: -26.496,-3 26.604,-3 ; -20.541,0.005 ccw(c-20.541,0.7) -19.846,0.7 -19.846,5.3 ; -19.841,5.305 cw(c-19.146,5.305) -19.146,6 19.254,6 cw(c19.254,5.305) 19.949,5.305 ; -17.946,-12.5 -17.946,-3 ; 18.054,-12.5 18.054,-3 ; 19.954,5.3 19.954,0.7 ccw(c20.649,0.7) 20.649,0.005 ; -26.496,-12.5 -26.496,0 26.604,0 26.604,-12.5 -26.496,-12.5
  text "25" at 13.936,-4.975 h1.5
  text "14" at -16.31,-4.975 h1.5
  text "13" at 15.441,-14.475 h1.5
  text "1" at -16.816,-14.475 h1.5

## 787202-4 [mm] "Connector; D Subminiature AMPLIMITE 2000; 25 Position; Right Angle"
height 12.93
pads (27):
  rect 1.69x1.69 hole 1.09: 1(-16.566,-10.92)
  round 1.69 hole 1.09: 2(-13.805,-10.92) 3(-11.044,-10.92) 4(-8.283,-10.92) 5(-5.522,-10.92) 6(-2.761,-10.92) 7(0,-10.92) 8(2.761,-10.92) 9(5.522,-10.92) 10(8.283,-10.92) 11(11.044,-10.92) 12(13.805,-10.92) 13(16.566,-10.92) 14(-15.185,-8.08) 15(-12.424,-8.08) 16(-9.663,-8.08) 17(-6.902,-8.08) 18(-4.141,-8.08) 19(-1.38,-8.08) 20(1.381,-8.08) 21(4.142,-8.08) 22(6.903,-8.08) 23(9.664,-8.08) 24(12.425,-8.08) 25(15.186,-8.08)
  round 4.76 hole 3.26: 26(-23.526,-9.5) 27(23.526,-9.5)
Top Overlay:
  lines w0.2: -26.496,-3 26.604,-3 ; -20.541,0.005 ccw(c-20.541,0.7) -19.846,0.7 -19.846,5.3 ; -19.841,5.305 cw(c-19.146,5.305) -19.146,6 19.254,6 cw(c19.254,5.305) 19.949,5.305 ; -17.946,-12.5 -17.946,-3 ; 18.054,-12.5 18.054,-3 ; 19.954,5.3 19.954,0.7 ccw(c20.649,0.7) 20.649,0.005 ; -26.496,-12.5 -26.496,0 26.604,0 26.604,-12.5 -26.496,-12.5
  text "25" at 13.936,-4.975 h1.5
  text "14" at -16.31,-4.975 h1.5
  text "13" at 15.441,-14.475 h1.5
  text "1" at -16.816,-14.475 h1.5